# Altium schematic symbol library 练习4.SchLib: 1 symbol
Pins are listed as number, name and electrical type; pins without a type are passive.

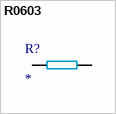
[diagram p0: symbol R0603]

## R0603
designator R?
footprint C0603
pins: 1, 2